# Altium footprint library Fancy.PcbLib: 119 footprints (part 8 of 8)
Each footprint in its own frame and in the unit in brackets; x right, y up, seen from the top. Pads: shape width x height; smd on the part's side, far side on the other; paste and mask are expansions set on the pad; w line width, h text height; cw(c..) or ccw(c..) is an arc to the next point about the centre after c.
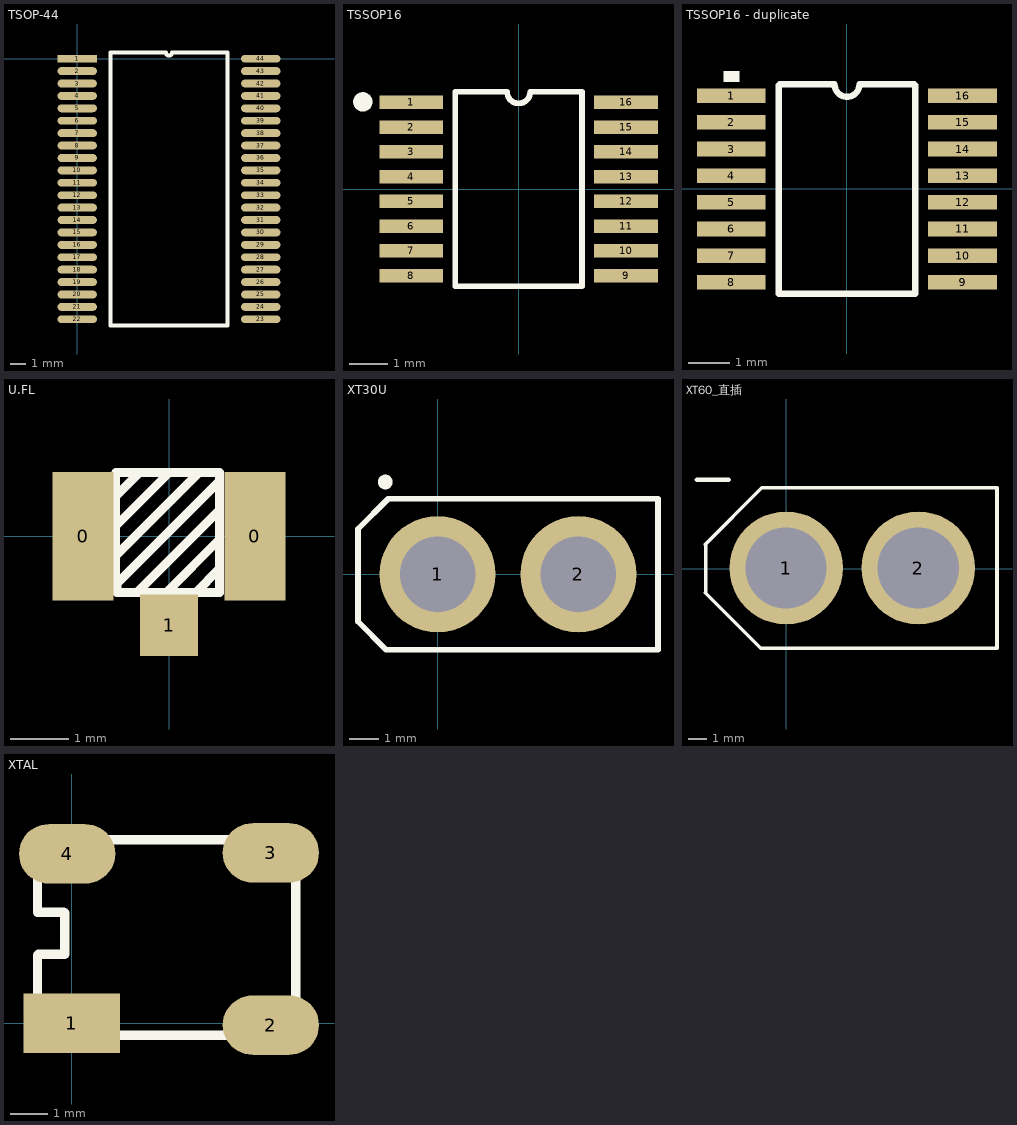
[diagram p7: the footprints below, top view; thin cyan lines are the x and y axes]

## TSOP-44 [mil]
pads (44):
  rect 100x20 smd: 1(0,0)
  oval 100x20 smd: 2(0,-31.5) 3(0,-63) 4(0,-94.5) 5(0,-126) 6(0,-157.5) 7(0,-189) 8(0,-220.5) 9(0,-252) 10(0,-283.5) 11(0,-315) 12(0,-346.5) 13(0,-378) 14(0,-409.5) 15(0,-441) 16(0,-472.5) 17(0,-504) 18(0,-535.5) 19(0,-567) 20(0,-598.5) 21(0,-630) 22(0,-661.5) 23(466,-661.5) 24(466,-630) 25(466,-598.5) 26(466,-567) 27(466,-535.5) 28(466,-504) 29(466,-472.5) 30(466,-441) 31(466,-409.5) 32(466,-378) 33(466,-346.5) 34(466,-315) 35(466,-283.5) 36(466,-252) 37(466,-220.5) 38(466,-189) 39(466,-157.5) 40(466,-126) 41(466,-94.5) 42(466,-63) 43(466,-31.5) 44(466,0)
Top Overlay:
  lines w10: 85,-677.25 381,-677.25 381,15.75 240.88,15.75 cw(c233,15.75) 225.12,15.75 85,15.75 85,-677.25

## TSSOP16 [mil]
pads (16):
  rect 66x14 smd: 1(-111,89.57) 2(-111,63.98) 3(-111,38.39) 4(-111,12.8) 5(-111,-12.8) 6(-111,-38.39) 7(-111,-63.98) 8(-111,-89.57) 9(111,-89.57) 10(111,-63.98) 11(111,-38.39) 12(111,-12.8) 13(111,12.8) 14(111,38.39) 15(111,63.98) 16(111,89.57)
Top Overlay:
  circle w10: c-161,90 r5
  lines w6: -65.5,-100.5 -65.5,100.5 -12,100.5 ccw(c0,100.5) 12,100.5 65.5,100.5 65.5,-100.5 -65.5,-100.5

## TSSOP16 - duplicate [mil]
pads (16):
  rect 66x14 smd: 1(-111,89.57) 2(-111,63.98) 3(-111,38.39) 4(-111,12.8) 5(-111,-12.8) 6(-111,-38.39) 7(-111,-63.98) 8(-111,-89.57) 9(111,-89.57) 10(111,-63.98) 11(111,-38.39) 12(111,-12.8) 13(111,12.8) 14(111,38.39) 15(111,63.98) 16(111,89.57)
Top Overlay:
  region: -118.5,103 -118.5,113 -103.5,113 -103.5,103
  lines w6: -65.5,-100.5 -65.5,99.5 -64.5,100.5 -12,100.5 ccw(c0,100.5) 12,100.5 64.5,100.5 65.5,99.5 65.5,-100.5 -65.5,-100.5

## U.FL [mm]
pads (3):
  rect 1.05x2.2 smd: 0(-1.473,0) 0(1.473,0)
  rect 1x1.05 smd: 1(0,-1.524)
Top Overlay:
  lines w0.152: -0.914,-0.94 -0.914,1.092 ; -0.914,-0.33 0.508,1.092 ; -0.914,0.178 0,1.092 ; -0.914,0.686 -0.508,1.092 ; -0.889,1.092 -0.914,1.092 ; -0.528,-0.946 0.857,0.439 ; -0.048,-0.968 0.866,-0.053 ; 0.456,-0.964 0.863,-0.558 ; -0.914,1.092 0.864,1.092 ; 0.864,1.092 0.864,0.945 -0.889,-0.808 -0.889,-0.965 0.864,-0.965 0.864,1.092

## XT30U [mm]
pads (2):
  round 4 hole 2.6: 1(0,0) 2(4.85,0)
Top Overlay:
  circle w0.254: c-1.806,3.175 r0.127
  lines w0.2: 7.592,-0.067 7.592,-2.6 -1.775,-2.6 -2.742,-1.633 -2.742,1.3 -2.742,1.558 -1.7,2.6 7.592,2.6 7.592,-0.06

## XT60_直插 [mm]
pads (2):
  round 6 hole 4.3: 1(0,0.05) 2(7,0.05)
Top Overlay:
  lines w0.2: -4.292,-1.258 -1.35,-4.2 11.175,-4.2 11.175,4.3 -1.292,4.3 -4.292,1.3 ; -4.267,-1.283 -4.267,1.275
  lines w0.254: -4.725,4.725 -3.05,4.725

## XTAL [mm]
pads (4):
  rect 2.6x1.61 smd: 1(0,0)
  oval 2.6x1.61 smd: 2(5.375,-0.05) 3(5.375,4.6) 4(-0.125,4.575)
Top Overlay:
  lines w0.254: -0.925,-0.325 -0.925,1.834 -0.9,1.859 -0.188,1.859 -0.188,2.977 -0.214,3.002 -0.925,3.002 -0.925,4.975 -0.9,4.95 6.05,4.95 6.05,-0.3 6.075,-0.325 -0.925,-0.325